# EAGLE library part AD9746 (library analog-devices)
Digital-to-Analog Converter Dual 12 Bit, 250 MSPS
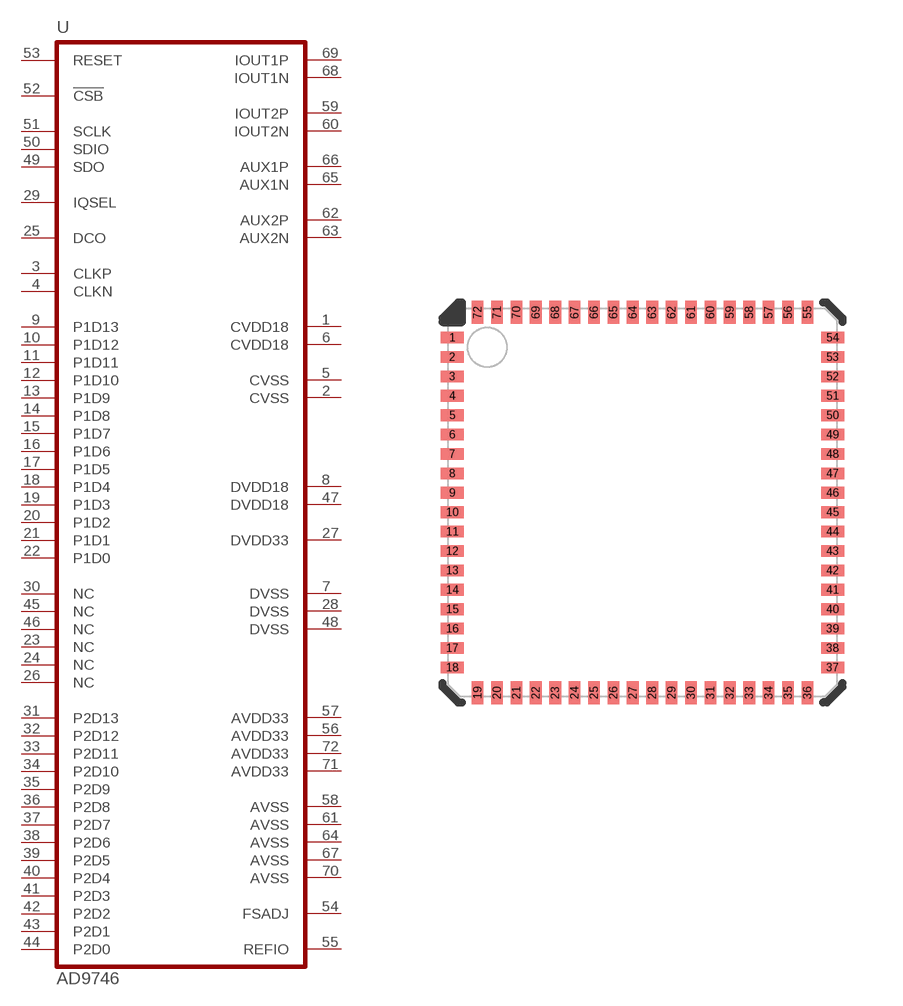
[diagram p56: symbol with the pads of LFCSP72_VQ; footprint LFCSP72_VQ]

Designator prefix U

## AD9746  [LFCSP72_VQ]
1  CVDD18  pwr
2  CVSS  pwr
3  CLKP  in
4  CLKN  in
5  CVSS  pwr
6  CVDD18  pwr
7  DVSS  pwr
8  DVDD18  pwr
9  P1D13  in
10  P1D12  in
11  P1D11  in
12  P1D10  in
13  P1D9  in
14  P1D8  in
15  P1D7  in
16  P1D6  in
17  P1D5  in
18  P1D4  in
19  P1D3  in
20  P1D2  in
21  P1D1  in
22  P1D0  in
23  NC  in
24  NC  in
25  DCO  out
26  NC  in
27  DVDD33  pwr
28  DVSS  pwr
29  IQSEL
30  NC  in
31  P2D13  in
32  P2D12  in
33  P2D11  in
34  P2D10  in
35  P2D9  in
36  P2D8  in
37  P2D7  in
38  P2D6  in
39  P2D5  in
40  P2D4  in
41  P2D3  in
42  P2D2  in
43  P2D1  in
44  P2D0  in
45  NC  in
46  NC  in
47  DVDD18  pwr
48  DVSS  pwr
49  SDO  out
50  SDIO
51  SCLK  in
52  !CSB!  in
53  RESET  in
54  FSADJ
55  REFIO  in
56  AVDD33  pwr
57  AVDD33  pwr
58  AVSS  pwr
59  IOUT2P  out
60  IOUT2N  out
61  AVSS  pwr
62  AUX2P  out
63  AUX2N  out
64  AVSS  pwr
65  AUX1N  out
66  AUX1P  out
67  AVSS  pwr
68  IOUT1N  out
69  IOUT1P  out
70  AVSS  pwr
71  AVDD33  pwr
72  AVDD33  pwr

## Footprint LFCSP72_VQ (pad centres in mm)
72-Lead Lead Frame Chip Scale Package 10 mm × 10 mm, Very Thin Quad
smd 0.6 x 0.3: 1 -4.9,4.25; 2 -4.9,3.75; 3 -4.9,3.25; 4 -4.9,2.75; 5 -4.9,2.25; 6 -4.9,1.75; 7 -4.9,1.25; 8 -4.9,0.75; 9 -4.9,0.25; 10 -4.9,-0.25; 11 -4.9,-0.75; 12 -4.9,-1.25; 13 -4.9,-1.75; 14 -4.9,-2.25; 15 -4.9,-2.75; 16 -4.9,-3.25; 17 -4.9,-3.75; 18 -4.9,-4.25; 37 4.9,-4.25; 38 4.9,-3.75; 39 4.9,-3.25; 40 4.9,-2.75; 41 4.9,-2.25; 42 4.9,-1.75; 43 4.9,-1.25; 44 4.9,-0.75; 45 4.9,-0.25; 46 4.9,0.25; 47 4.9,0.75; 48 4.9,1.25; 49 4.9,1.75; 50 4.9,2.25; 51 4.9,2.75; 52 4.9,3.25; 53 4.9,3.75; 54 4.9,4.25
smd 0.3 x 0.6: 19 -4.25,-4.9; 20 -3.75,-4.9; 21 -3.25,-4.9; 22 -2.75,-4.9; 23 -2.25,-4.9; 24 -1.75,-4.9; 25 -1.25,-4.9; 26 -0.75,-4.9; 27 -0.25,-4.9; 28 0.25,-4.9; 29 0.75,-4.9; 30 1.25,-4.9; 31 1.75,-4.9; 32 2.25,-4.9; 33 2.75,-4.9; 34 3.25,-4.9; 35 3.75,-4.9; 36 4.25,-4.9; 55 4.25,4.9; 56 3.75,4.9; 57 3.25,4.9; 58 2.75,4.9; 59 2.25,4.9; 60 1.75,4.9; 61 1.25,4.9; 62 0.75,4.9; 63 0.25,4.9; 64 -0.25,4.9; 65 -0.75,4.9; 66 -1.25,4.9; 67 -1.75,4.9; 68 -2.25,4.9; 69 -2.75,4.9; 70 -3.25,4.9; 71 -3.75,4.9; 72 -4.25,4.9